# EAGLE library part CMOQ (library nw2s)
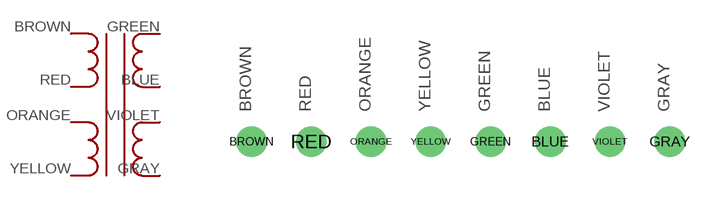
[diagram p16: symbol with the pads of CMOQ-WIRE; footprint CMOQ-WIRE]

Designator prefix -

## CMOQ  [CMOQ-WIRE]
BLUE  BLUE
BROWN  BROWN
GRAY  GRAY
GREEN  GREEN
ORANGE  ORANGE
RED  RED
VIOLET  VIOLET
YELLOW  YELLOW

## Footprint CMOQ-WIRE (pad centres in mm)
drill 0.8: BLUE 3.81,0; BROWN -8.89,0; GRAY 8.89,0; GREEN 1.27,0; ORANGE -3.81,0; RED -6.35,0; VIOLET 6.35,0; YELLOW -1.27,0